# Altium schematic symbol library MAX6043.Schlib: 1 symbol
Pins are listed as number, name and electrical type; pins without a type are passive.

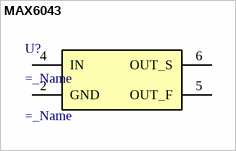
[diagram p0: symbol MAX6043]

## MAX6043
designator U?
=description; Value: =_Name
pins: 2 GND, 4 IN, 5 OUT_F, 6 OUT_S